# EAGLE library part AD711 (library analog-devices)
Precision, Low Cost, High Speed, BiFET Op Amp Source: http://www.analog.com/static/imported-files/data_sheets/AD711.pdf
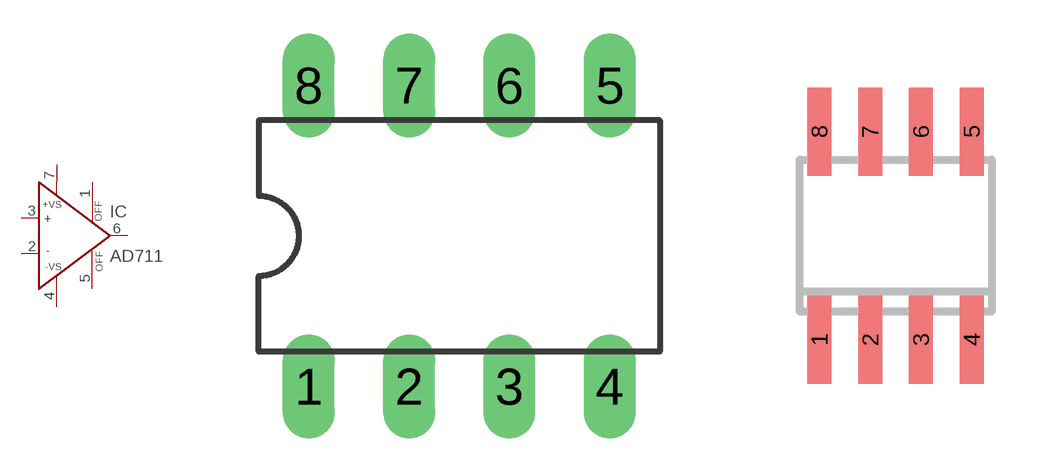
[diagram p88: symbol with the pads of DIL08; footprints DIL08, SO8]

Designator prefix IC

## AD711N  [DIL08]
1  OFF  pas
2  IN-  in
3  IN+  in
4  -VS  in
5  OFF  pas
6  OUT  out
7  +VS  in

## AD711RN  [SO8]
Pads as for DIL08

## AD711H  [H08]
Pads as for DIL08

## Footprint DIL08 (pad centres in mm)
Dual In Line Package
drill 0.813 long: 1 -3.81,-3.81; 2 -1.27,-3.81; 3 1.27,-3.81; 4 3.81,-3.81; 5 3.81,3.81; 6 1.27,3.81; 7 -1.27,3.81; 8 -3.81,3.81

## Footprint SO8 (pad centres in mm)
8-Lead Small Outline IC (SO-8) Source: http://www.analog.com/UploadedFiles/Data_Sheets/703465986AD8611_2_0.pdf
smd 0.6 x 2.2: 1 -1.905,-2.6; 2 -0.635,-2.6; 3 0.635,-2.6; 4 1.905,-2.6; 5 1.905,2.6; 6 0.635,2.6; 7 -0.635,2.6; 8 -1.905,2.6

## Footprint H08 (pad centres in mm)
8-Lead Metal Can TO-99 (H-8) Source: http://www.analog.com/static/imported-files/data_sheets/AD711.pdf
drill 0.8 pad 1.3 round: 1 -1.796,-1.796; 2 0,-2.54; 3 1.796,-1.796; 4 2.54,0; 5 1.796,1.796; 6 0,2.54; 7 -1.796,1.796; 8 -2.54,0